# EAGLE library part TEENSY30-FULL (library teensy31)
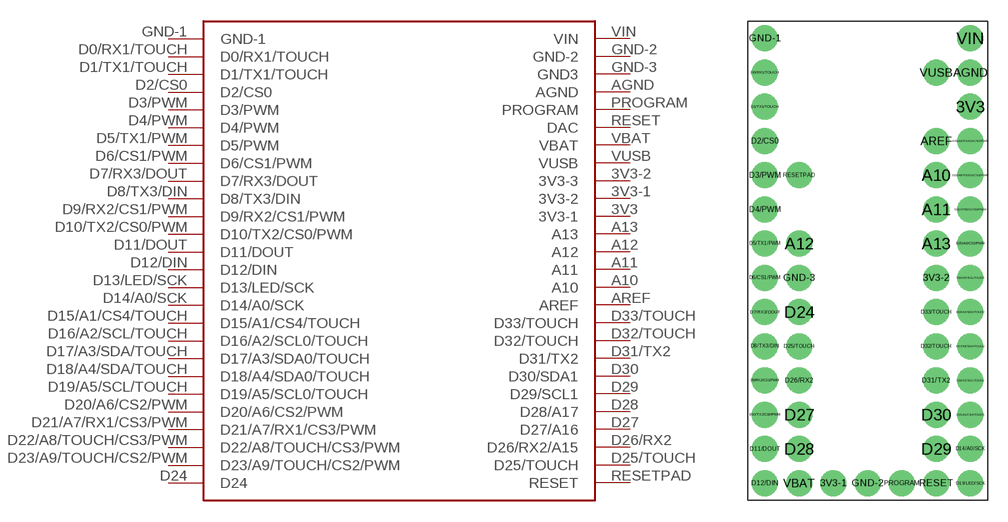
[diagram p0: symbol with the pads of TEENSY30-FULL; footprint TEENSY30-FULL]

Designator prefix -

## TEENSY30-FULL  [TEENSY30-FULL]
3V3  3V3-1
3V3-1  3V3-2
3V3-2  3V3-3
A10  A10
A11  A11
A12  A12
A13  A13
AGND  AGND
AREF  AREF
D0/RX1/TOUCH  D0/RX1/TOUCH
D1/TX1/TOUCH  D1/TX1/TOUCH
D2/CS0  D2/CS0
D3/PWM  D3/PWM
D4/PWM  D4/PWM
D5/TX1/PWM  D5/PWM
D6/CS1/PWM  D6/CS1/PWM
D7/RX3/DOUT  D7/RX3/DOUT
D8/TX3/DIN  D8/TX3/DIN
D9/RX2/CS1/PWM  D9/RX2/CS1/PWM
D10/TX2/CS0/PWM  D10/TX2/CS0/PWM
D11/DOUT  D11/DOUT
D12/DIN  D12/DIN
D13/LED/SCK  D13/LED/SCK
D14/A0/SCK  D14/A0/SCK
D15/A1/CS4/TOUCH  D15/A1/CS4/TOUCH
D16/A2/SCL/TOUCH  D16/A2/SCL0/TOUCH
D17/A3/SDA/TOUCH  D17/A3/SDA0/TOUCH
D18/A4/SDA/TOUCH  D18/A4/SDA0/TOUCH
D19/A5/SCL/TOUCH  D19/A5/SCL0/TOUCH
D20/A6/CS2/PWM  D20/A6/CS2/PWM
D21/A7/RX1/CS3/PWM  D21/A7/RX1/CS3/PWM
D22/A8/TOUCH/CS3/PWM  D22/A8/TOUCH/CS3/PWM
D23/A9/TOUCH/CS2/PWM  D23/A9/TOUCH/CS2/PWM
D24  D24
D25/TOUCH  D25/TOUCH
D26/RX2  D26/RX2/A15
D27  D27/A16
D28  D28/A17
D29  D29/SCL1
D30  D30/SDA1
D31/TX2  D31/TX2
D32/TOUCH  D32/TOUCH
D33/TOUCH  D33/TOUCH
GND-1  GND-1
GND-2  GND-2
GND-3  GND3
PROGRAM  PROGRAM
RESET  DAC
RESETPAD  RESET
VBAT  VBAT
VIN  VIN
VUSB  VUSB

## Footprint TEENSY30-FULL (pad centres in mm)
drill 1.1 pad 1.93: 3V3 7.62,11.43; 3V3-1 -2.54,-16.51; 3V3-2 5.08,-1.27; A10 5.08,6.35; A11 5.08,3.81; A12 -5.08,1.27; A13 5.08,1.27; AGND 7.62,13.97; AREF 5.08,8.89; D0/RX1/TOUCH -7.62,13.97; D1/TX1/TOUCH -7.62,11.43; D2/CS0 -7.62,8.89; D3/PWM -7.62,6.35; D4/PWM -7.62,3.81; D5/TX1/PWM -7.62,1.27; D6/CS1/PWM -7.62,-1.27; D7/RX3/DOUT -7.62,-3.81; D8/TX3/DIN -7.62,-6.35; D9/RX2/CS1/PWM -7.62,-8.89; D10/TX2/CS0/PWM -7.62,-11.43; D11/DOUT -7.62,-13.97; D12/DIN -7.62,-16.51; D13/LED/SCK 7.62,-16.51; D14/A0/SCK 7.62,-13.97; D15/A1/CS4/TOUCH 7.62,-11.43; D16/A2/SCL/TOUCH 7.62,-8.89; D17/A3/SDA/TOUCH 7.62,-6.35; D18/A4/SDA/TOUCH 7.62,-3.81; D19/A5/SCL/TOUCH 7.62,-1.27; D20/A6/CS2/PWM 7.62,1.27; D21/A7/RX1/CS3/PWM 7.62,3.81; D22/A8/TOUCH/CS3/PWM 7.62,6.35; D23/A9/TOUCH/CS2/PWM 7.62,8.89; D24 -5.08,-3.81; D25/TOUCH -5.08,-6.35; D26/RX2 -5.08,-8.89; D27 -5.08,-11.43; D28 -5.08,-13.97; D29 5.08,-13.97; D30 5.08,-11.43; D31/TX2 5.08,-8.89; D32/TOUCH 5.08,-6.35; D33/TOUCH 5.08,-3.81; GND-1 -7.62,16.51; GND-2 0,-16.51; GND-3 -5.08,-1.27; PROGRAM 2.54,-16.51; RESET 5.08,-16.51; RESETPAD -5.08,6.35; VBAT -5.08,-16.51; VIN 7.62,16.51; VUSB 5.08,13.97